# Altium footprint library PCB_PassiveRes.PcbLib: 9 footprints
Each footprint in its own frame and in the unit in brackets; x right, y up, seen from the top. Pads: shape width x height; smd on the part's side, far side on the other; paste and mask are expansions set on the pad; w line width, h text height; cw(c..) or ccw(c..) is an arc to the next point about the centre after c.
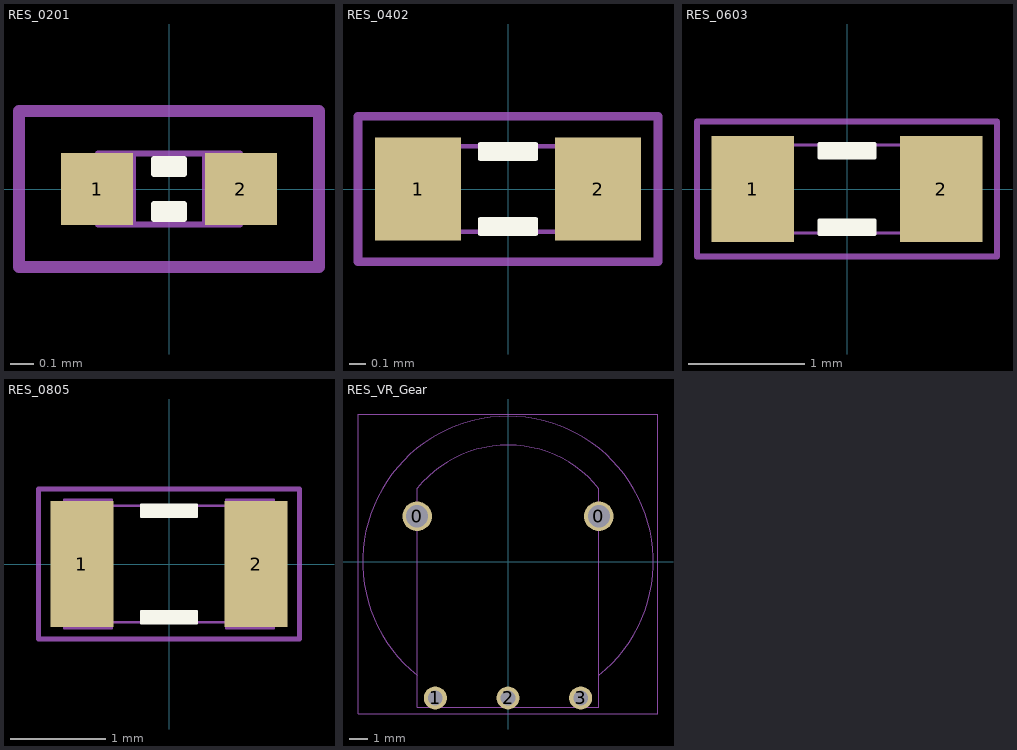
[diagram p0: the footprints below, top view; thin cyan lines are the x and y axes]

## RES_0201 [mil]
height 15.75
pads (2):
  rect 12x12 smd: 1(-12,0) 2(12,0)
Top Overlay:
  region: -2.5,5 2.5,5 2.5,2.5 -2.5,2.5
  region: 2.5,-5 -2.5,-5 -2.5,-2.5 2.5,-2.5
  lines w1: -2.5,-5 -2.5,-2.5 2.5,-2.5 2.5,-5 -2.5,-5 ; -2.5,2.5 2.5,2.5 2.5,5 -2.5,5 -2.5,2.5
Mechanical 13:
  lines w1: -6,-5.9 -6,5.91 ; 6,-5.92 6,5.89 ; -11.8,-5.9 -11.8,5.91 11.82,5.91 11.82,-5.9 -11.8,-5.9
T-Component:
  lines w2: -25,-13 25,-13 25,13 -25,13 -25,-13
3D body "RESC0603X33N EIA 0201.step": height 12.99, standoff 0, extent -11.8,-5.9 11.82,5.91

## RES_0402 [mil]
height 15.75
pads (2):
  rect 20x24 smd: 1(-21,0) 2(21,0)
Top Overlay:
  region: 6.5,-10.5 -6.5,-10.5 -6.5,-7 6.5,-7
  region: -6.5,10.5 6.5,10.5 6.5,7 -6.5,7
  lines w1: -6.5,-10.5 6.5,-10.5 6.5,-7 -6.5,-7 -6.5,-10.5 ; -6.5,7 -6.5,10.5 6.5,10.5 6.5,7 -6.5,7
Mechanical 13:
  lines w1: -12.8,-10 12.8,-10 ; -12.8,10 12.8,10 ; -20.67,-10.83 -12.8,-10.83 -12.8,10.83 -20.67,10.83 -20.67,-10.83 ; 12.8,-10.83 12.8,10.83 20.67,10.83 20.67,-10.83 12.8,-10.83
T-Component:
  lines w2: -35,-17 -35,17 35,17 35,-17 -35,-17
3D body "RESC1005X40N EIA 0402.step": height 15.75, standoff 0, extent -19.68,-9.84 19.7,9.85

## RES_0603 [mil]
height 31.5
pads (2):
  rect 28x36 smd: 1(-32,0) 2(32,0)
Top Overlay:
  region: -9.5,15.5 9.5,15.5 9.5,10.5 -9.5,10.5
  region: 9.5,-15.5 -9.5,-15.5 -9.5,-10.5 9.5,-10.5
  lines w1: -9.5,-15.5 9.5,-15.5 9.5,-10.5 -9.5,-10.5 -9.5,-15.5 ; -9.5,10.5 -9.5,15.5 9.5,15.5 9.5,10.5 -9.5,10.5
Mechanical 13:
  lines w1: -19,-15 19,-15 ; -18.99,15 19.01,15 ; -33,-17 -19,-17 -19,17 -33,17 -33,-17 ; 19.01,-17 19.01,17 33.01,17 33.01,-17 19.01,-17
T-Component:
  lines w2: -51,-23 -51,23 51,23 51,-23 -51,-23
3D body "RESC1608X50N EIA 0603.step": height 19.68, standoff 0, extent -31.49,-15.74 31.51,15.75

## RES_0805 [mil]
height 27.56
pads (2):
  rect 26x52 smd: 1(-36,0) 2(36,0)
Top Overlay:
  region: 11.5,-24.5 -11.5,-24.5 -11.5,-19.5 11.5,-19.5
  region: -11.5,24.5 11.5,24.5 11.5,19.5 -11.5,19.5
  lines w1: -11.5,-24.5 11.5,-24.5 11.5,-19.5 -11.5,-19.5 -11.5,-24.5 ; -11.5,19.5 -11.5,24.5 11.5,24.5 11.5,19.5 -11.5,19.5
Mechanical 13:
  lines w1: -23.62,-24 23.62,-24 ; -23.62,24 23.62,24 ; -43.31,-26.57 -23.62,-26.57 -23.62,26.57 -43.31,26.57 -43.31,-26.57 ; 23.62,-26.57 23.62,26.57 43.31,26.57 43.31,-26.57 23.62,-26.57
T-Component:
  lines w2: -54,-31 -54,31 54,31 54,-31 -54,-31
3D body "RESC2012X60N EIA 0805.step": height 23.62, standoff 0, extent -39.36,-23.62 39.38,23.63

## RES_1206 [mil]
height 27.56
3D body "RESC3216X65N EIA 1206.step": height 25.59, standoff 0, extent -62.98,-31.49 63,31.5

## RES_1210 [mil]
height 27.56
3D body "RESC3225X65N EIA 1210.step": height 25.59, standoff 0, extent -62.98,-49.21 63,49.22

## RES_2010 [mil]
height 27.56
3D body "RESC5025X70N EIA 2010.step": height 27.56, standoff 0, extent -98.42,-49.21 98.43,49.22

## RES_2512 [mil]
height 27.56
3D body "RESC6632X84N EIA 2512.step": height 33.07, standoff 0, extent -129.92,-62.99 129.92,63

## RES_VR_Gear [mil]
height 27.56
pads (5):
  round 64 hole 48: 0(-196.85,98.43) 0(196.85,98.43)
  round 50 hole 32: 1(-157.48,-295.28) 2(0,-295.28) 3(157.48,-295.28)
Mechanical 13:
  lines w2: -196.88,-245.85 cw(c0,0) 196.88,-245.85 ; -196.85,158.78 -196.85,-315 196.85,-315 196.85,158.1 ; -196.68,158.64 cw(c0,0) 197.01,158.23
T-Component:
  lines w2: -325,-330 325,-330 325,320 -325,320 -325,-330